# EAGLE library part W65C22 (library pda)
The W65C22 (W65C22N and W65C22S) Versatile Interface Adapter (VIA) is a flexible I/O device for use with the 65xx series microprocessor family. The W65C22 includes functions for programmed control of two peripheral ports (Ports A and B). Two program controlled 8-bit bidirectional peripheral I/O ports allow direct interfacing between the microprocessor and selected peripheral units. Each port has input data latching capability. Two programmable Data Direction Registers (A and B) allow selection of data direction (input or output) on an individual line basis. Also provided are two programmable 16-bit Interval Timer/Counters with latches. Timer 1 may be operated in a One-Shot Interrupt Mode with interrupts on each count to zero, or in a Free-Run Mode with a continuous series of evenly spaced interrupts. Timer 2 functions as both an interval and pulse counter. Serial Data transfers are provided by a serial to parallel/parallel to serial shift register. Application versatility is further increased by various control registers, including an Interrupt Flag Register, an Interrupt Enable Register and two Function Control Registers.
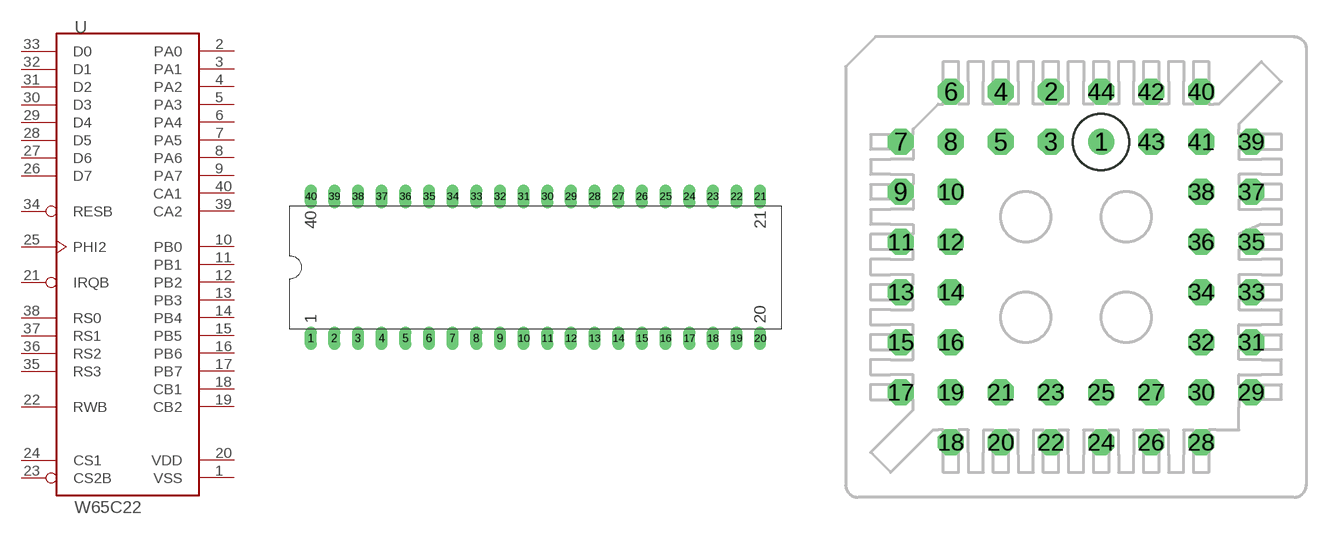
[diagram p1: symbol with the pads of DIP40; footprints DIP40, PLCC44-SOCKET]

Designator prefix U

## W65C22DIP40  [DIP40]
1  VSS  pwr
2  PA0
3  PA1
4  PA2
5  PA3
6  PA4
7  PA5
8  PA6
9  PA7
10  PB0
11  PB1
12  PB2
13  PB3
14  PB4
15  PB5
16  PB6
17  PB7
18  CB1  in
19  CB2
20  VDD  pwr
21  IRQB  oc
22  RWB  in
23  CS2B  in
24  CS1  in
25  PHI2  in
26  D7
27  D6
28  D5
29  D4
30  D3
31  D2
32  D1
33  D0
34  RESB  in
35  RS3  in
36  RS2  in
37  RS1  in
38  RS0  in
39  CA2
40  CA1  in

## W65C22PLCC44-SOCKET  [PLCC44-SOCKET]
1  VSS  pwr
2  PA0
3  PA1
4  PA2
5  PA3
6  PA4
7  PA5
8  PA6
9  PA7
10  PB0
12  PB1
13  PB2
14  PB3
15  PB4
16  PB5
17  PB6
18  PB7
19  CB1  in
20  CB2
21  VDD  pwr
23  IRQB  oc
24  RWB  in
25  CS2B  in
26  CS1  in
27  PHI2  in
28  D7
29  D6
30  D5
31  D4
32  D3
34  D2
35  D1
36  D0
37  RESB  in
39  RS3  in
40  RS2  in
41  RS1  in
42  RS0  in
43  CA2
44  CA1  in

## Footprint DIP40 (pad centres in mm)
drill 0.61 pad 1.27 long: 1 -24.13,-7.62; 2 -21.59,-7.62; 3 -19.05,-7.62; 4 -16.51,-7.62; 5 -13.97,-7.62; 6 -11.43,-7.62; 7 -8.89,-7.62; 8 -6.35,-7.62; 9 -3.81,-7.62; 10 -1.27,-7.62; 11 1.27,-7.62; 12 3.81,-7.62; 13 6.35,-7.62; 14 8.89,-7.62; 15 11.43,-7.62; 16 13.97,-7.62; 17 16.51,-7.62; 18 19.05,-7.62; 19 21.59,-7.62; 20 24.13,-7.62; 21 24.13,7.62; 22 21.59,7.62; 23 19.05,7.62; 24 16.51,7.62; 25 13.97,7.62; 26 11.43,7.62; 27 8.89,7.62; 28 6.35,7.62; 29 3.81,7.62; 30 1.27,7.62; 31 -1.27,7.62; 32 -3.81,7.62; 33 -6.35,7.62; 34 -8.89,7.62; 35 -11.43,7.62; 36 -13.97,7.62; 37 -16.51,7.62; 38 -19.05,7.62; 39 -21.59,7.62; 40 -24.13,7.62

## Footprint PLCC44-SOCKET (pad centres in mm)
drill 0.813: 1 1.27,5.08
drill 0.813 octagon: 2 -1.27,7.62; 3 -1.27,5.08; 4 -3.81,7.62; 5 -3.81,5.08; 6 -6.35,7.62; 7 -8.89,5.08; 8 -6.35,5.08; 9 -8.89,2.54; 10 -6.35,2.54; 11 -8.89,0; 12 -6.35,0; 13 -8.89,-2.54; 14 -6.35,-2.54; 15 -8.89,-5.08; 16 -6.35,-5.08; 17 -8.89,-7.62; 18 -6.35,-10.16; 19 -6.35,-7.62; 20 -3.81,-10.16; 21 -3.81,-7.62; 22 -1.27,-10.16; 23 -1.27,-7.62; 24 1.27,-10.16; 25 1.27,-7.62; 26 3.81,-10.16; 27 3.81,-7.62; 28 6.35,-10.16; 29 8.89,-7.62; 30 6.35,-7.62; 31 8.89,-5.08; 32 6.35,-5.08; 33 8.89,-2.54; 34 6.35,-2.54; 35 8.89,0; 36 6.35,0; 37 8.89,2.54; 38 6.35,2.54; 39 8.89,5.08; 40 6.35,7.62; 41 6.35,5.08; 42 3.81,7.62; 43 3.81,5.08; 44 1.27,7.62